# Altium footprint library Chip_Socket_Programmer-X01.PcbLib: 15 footprints
Each footprint in its own frame and in the unit in brackets; x right, y up, seen from the top. Pads: shape width x height; smd on the part's side, far side on the other; paste and mask are expansions set on the pad; w line width, h text height; cw(c..) or ccw(c..) is an arc to the next point about the centre after c.
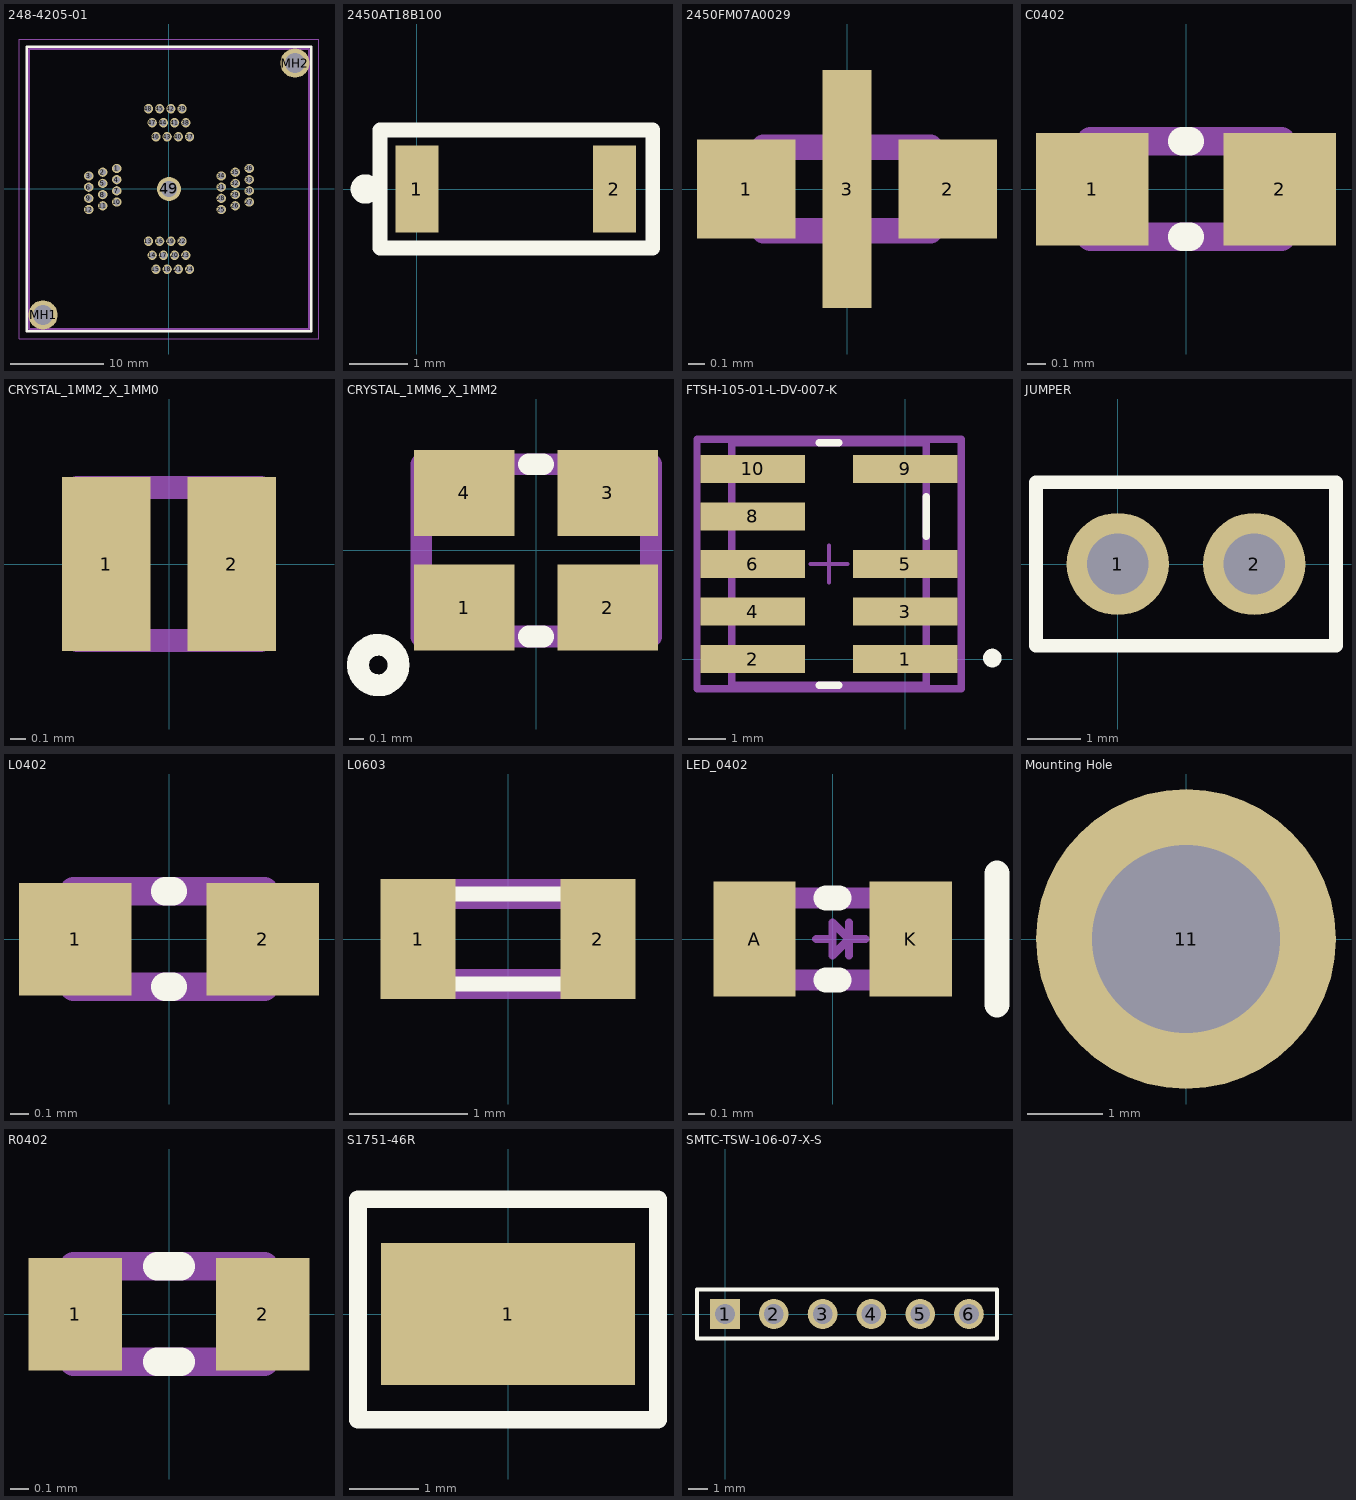
[diagram p0: the footprints below, top view; thin cyan lines are the x and y axes]

## 248-4205-01 [mm] "3M Chip Socket, 48 Position QFN, 6x6 package, 0.4 mm Pitch"
pads (51):
  round 1 hole 0.7: 1(-5.6,2.2) 2(-7.1,1.8) 3(-8.6,1.4) 4(-5.6,1) 5(-7.1,0.6) 6(-8.6,0.2) 7(-5.6,-0.2) 8(-7.1,-0.6) 9(-8.6,-1) 10(-5.6,-1.4) 11(-7.1,-1.8) 12(-8.6,-2.2) 13(-2.2,-5.6) 14(-1.8,-7.1) 15(-1.4,-8.6) 16(-1,-5.6) 17(-0.6,-7.1) 18(-0.2,-8.6) 19(0.2,-5.6) 20(0.6,-7.1) 21(1,-8.6) 22(1.4,-5.6) 23(1.8,-7.1) 24(2.2,-8.6) 25(5.6,-2.2) 26(7.1,-1.8) 27(8.6,-1.4) 28(5.6,-1) 29(7.1,-0.6) 30(8.6,-0.2) 31(5.6,0.2) 32(7.1,0.6) 33(8.6,1) 34(5.6,1.4) 35(7.1,1.8) 36(8.6,2.2) 37(2.2,5.6) 38(1.8,7.1) 39(1.4,8.6) 40(1,5.6) 41(0.6,7.1) 42(0.2,8.6) 43(-0.2,5.6) 44(-0.6,7.1) 45(-1,8.6) 46(-1.4,5.6) 47(-1.8,7.1) 48(-2.2,8.6)
  round 2.55 hole 1.7: 49(0,0)
  round 3.15 hole 2.1: MH1(-13.5,-13.5) MH2(13.5,13.5)
Top Overlay:
  lines w0.254: -15.24,-15.24 -15.24,15.24 15.24,15.24 15.24,-15.24 -15.24,-15.24
Mechanical 3:
  lines w0.1: -16.075,-16.075 16.075,-16.075 16.075,16.075 -16.075,16.075 -16.075,-16.075
  lines w0.2: -15,-15 15,-15 15,15 -15,15 -15,-15
Mechanical 7:
  lines w0.1: -15,-12 -15,15 12,15 ; -12,-15 15,-15 15,12
3D body "248-4205-01.stp": height 17.1, standoff -5, extent -15,-15 15,15

## 2450AT18B100 [mm] "2.4GHz Mini Antenna SMD, 50 ohm Resistence"
height 1.35
pads (2):
  rect 0.74x1.5 smd mask+0.03: 1(0,0) 2(3.406,0)
Top Overlay:
  circle w0.254: c-0.889,0 r0.127
  lines w0.254: -0.635,-1.016 4.064,-1.016 4.064,1.016 -0.635,1.016 -0.635,-1.016
3D body: height 1.4, standoff 0, extent -0.049,-0.9 3.351,0.9

## 2450FM07A0029 [mm] "Ultra Miniature 2.45 GHz Impedance Matched Low Pass Filter for nRF52832"
pads (3):
  rect 0.6x0.6 smd: 1(-0.613,0) 2(0.613,0)
  rect 0.3x1.45 smd: 3(0,0)
Top Overlay:
  lines w0.152: -0.02,-0.254 0.02,-0.254 ; -0.02,0.254 0.02,0.254
Mechanical 3:
  lines w0.152: -0.508,-0.254 -0.508,0.254 0.508,0.254 0.508,-0.254 -0.508,-0.254
3D body "C0402.stp": height 0.55, standoff 0, extent -0.5,-0.25 0.5,0.25

## C0402 [mm]
pads (2):
  rect 0.6x0.6 smd: 1(-0.5,0) 2(0.5,0)
Top Overlay:
  lines w0.152: -0.02,-0.254 0.02,-0.254 ; -0.02,0.254 0.02,0.254
Mechanical 3:
  lines w0.152: -0.508,-0.254 0.508,-0.254 0.508,0.254 -0.508,0.254 -0.508,-0.254
3D body "C0402.stp": height 0.55, standoff 0, extent -0.5,-0.25 0.5,0.25

## CRYSTAL_1MM2_X_1MM0 [mm] "Crystal 1.2 x 1.0 x 0.35mm"
pads (2):
  rect 0.575x1.14 smd paste-0.5 mask+0.06: 1(-0.41,0) 2(0.41,0)
Mechanical 3:
  lines w0.152: -0.6,-0.5 -0.6,0.5 0.6,0.5 0.6,-0.5 -0.6,-0.5
3D body: height 0.35, standoff 0, extent -0.6,-0.5 0.6,0.5

## CRYSTAL_1MM6_X_1MM2 [mm] "1.6 x 1.2 x 0.35mm 4-pin crystal"
pads (4):
  rect 0.7x0.6 smd mask+0.036: 1(-0.5,-0.4) 2(0.5,-0.4) 3(0.5,0.4) 4(-0.5,0.4)
Top Overlay:
  circle w0.152: c-1.1,-0.8 r0.141
  lines w0.152: -0.05,-0.6 0.05,-0.6 ; -0.05,0.6 0.05,0.6
Mechanical 3:
  lines w0.152: -0.8,-0.6 -0.8,0.6 0.8,0.6 0.8,-0.6 -0.8,-0.6
3D body: height 0.35, standoff 0, extent -0.8,-0.6 0.8,0.6

## FTSH-105-01-L-DV-007-K [mm]
pads (9):
  rect 2.79x0.74 smd paste+0 mask+0: 1(0,0) 2(-4.07,0) 3(0,1.27) 4(-4.07,1.27) 5(0,2.54) 6(-4.07,2.54) 8(-4.07,3.81) 9(0,5.08) 10(-4.07,5.08)
Top Overlay:
  circle w0.25: c2.33,0.025 r0.125
  lines w0.2: -2.3,-0.7 -1.77,-0.7 ; -2.3,5.78 -1.77,5.78 ; 0.57,3.285 0.57,4.335
Top 3D Body:
  lines w0.2: -4.64,-0.7 -4.64,5.78 0.57,5.78 0.57,-0.7 -4.64,-0.7
Top Courtyard:
  lines w0.2: -5.565,-0.8 -5.565,5.88 1.495,5.88 1.495,-0.8 -5.565,-0.8
Top Component Center:
  lines w0.1: -2.535,2.54 -1.535,2.54 ; -2.035,2.04 -2.035,3.04
Top Assembly:
  lines w0.2: -5.565,-0.8 -5.565,5.88 1.495,5.88 1.495,-0.8 -5.565,-0.8
  text ".Designator" at -1.942,2.54 h0.51
3D body "Conn_Samtec_FTSH-105-01-L-DV-007-K_eec.STEP": height 0.25, standoff 0, extent -5.565,-0.8 1.495,5.88

## JUMPER [mil]
pads (2):
  round 75 hole 45: 1(0,0) 2(100,0)
Top Overlay:
  lines w10: -60,-60 -60,60 160,60 160,-60 -60,-60
3D body "Jumper Closed.stp": height 343.31, standoff -120.08, extent -49.99,-50.09 150.01,49.91

## L0402 [mm]
pads (2):
  rect 0.6x0.6 smd: 1(-0.5,0) 2(0.5,0)
Top Overlay:
  lines w0.152: -0.02,-0.254 0.02,-0.254 ; -0.02,0.254 0.02,0.254
Mechanical 3:
  lines w0.152: -0.508,-0.254 0.508,-0.254 0.508,0.254 -0.508,0.254 -0.508,-0.254
3D body "C0402.stp": height 0.55, standoff 0, extent -0.5,-0.25 0.5,0.25

## L0603 [mil] "surface mount inductor 0603"
pads (2):
  rect 25x40 smd: 1(-30,0) 2(30,0)
Top Overlay:
  lines w5: -30,-15 30,-15 30,15 -30,15 -30,-15
Mechanical 3:
  lines w10: -30,-15 30,-15 30,15 -30,15 -30,-15
3D body "L0603.step": height 39.37, standoff 0, extent -31.49,-15.74 31.5,15.75

## LED_0402 [mm] "0402 w/ LED mark"
pads (2):
  rect 0.5x0.7 smd: A(-0.475,0) K(0.475,0)
Top Overlay:
  lines w0.152: -0.04,-0.25 0.04,-0.25 ; -0.04,0.25 0.04,0.25 ; 1,-0.4 1,0.4
Mechanical 3:
  lines w0.05: -0.1,0 0,0 ; 0.1,-0.1 0.1,0.1 ; 0.2,0 0.1,0 ; 0.1,0 0,0.1 0,-0.1 0.1,0
  lines w0.127: -0.5,-0.25 0.5,-0.25 0.5,0.25 -0.5,0.25 -0.5,-0.25
3D body "LED0402.stp": height 0.35, standoff 0, extent -0.5,-0.25 0.5,0.25

## Mounting Hole [mm] "M2 or 2-56 Mounting Hole"
pads (1):
  round 4 hole 2.5: 11(0,0)
3D body "91115A956.STEP": height -0.77, standoff -18.23, extent -1.587,-1.833 1.588,1.833
3D body "92185A077.STEP": height 2.28, standoff -6.25, extent -1.778,-1.778 1.778,1.778

## R0402 [mm]
pads (2):
  rect 0.5x0.6 smd: 1(-0.5,0) 2(0.5,0)
Top Overlay:
  lines w0.152: -0.064,-0.254 0.064,-0.254 ; -0.064,0.254 0.064,0.254
Mechanical 3:
  lines w0.152: -0.508,-0.254 -0.508,0.254 0.508,0.254 0.508,-0.254 -0.508,-0.254
3D body "R0402.stp": height 0.35, standoff 0, extent -0.5,-0.25 0.5,0.25

## S1751-46R [mm] "PC TEST POINT TIN SMD"
pads (1):
  rect 3.65x2.05 smd: 1(0,0)
Top Overlay:
  lines w0.254: -2.159,-1.524 2.159,-1.524 2.159,1.651 -2.159,1.651 -2.159,-1.524
3D body "s1751-46r.stp": height 2, standoff -0.05, extent -1.635,-0.888 1.615,0.762

## SMTC-TSW-106-07-X-S [mm] ".025 SQ Post Terminal Strip Assembly, 1x6 Pins, Vertical, 2.54mm Pitch, Male"
height 8.58
pads (6):
  rect 1.55x1.55 hole 1.02: 1(0,0)
  round 1.55 hole 1.02: 2(2.54,0) 3(5.08,0) 4(7.62,0) 5(10.16,0) 6(12.7,0)
Top Overlay:
  lines w0.2: -1.46,-1.27 14.16,-1.27 14.16,1.27 -1.46,1.27 -1.46,-1.27
3D body "TSW-106-07-X-S.step": height 8.38, standoff -2.54, extent -1.27,-1.24 13.97,1.3